# Altium footprint library smd_cap_electrolytic.PcbLib: 10 footprints
Each footprint in its own frame and in the unit in brackets; x right, y up, seen from the top. Pads: shape width x height; smd on the part's side, far side on the other; paste and mask are expansions set on the pad; w line width, h text height; cw(c..) or ccw(c..) is an arc to the next point about the centre after c.
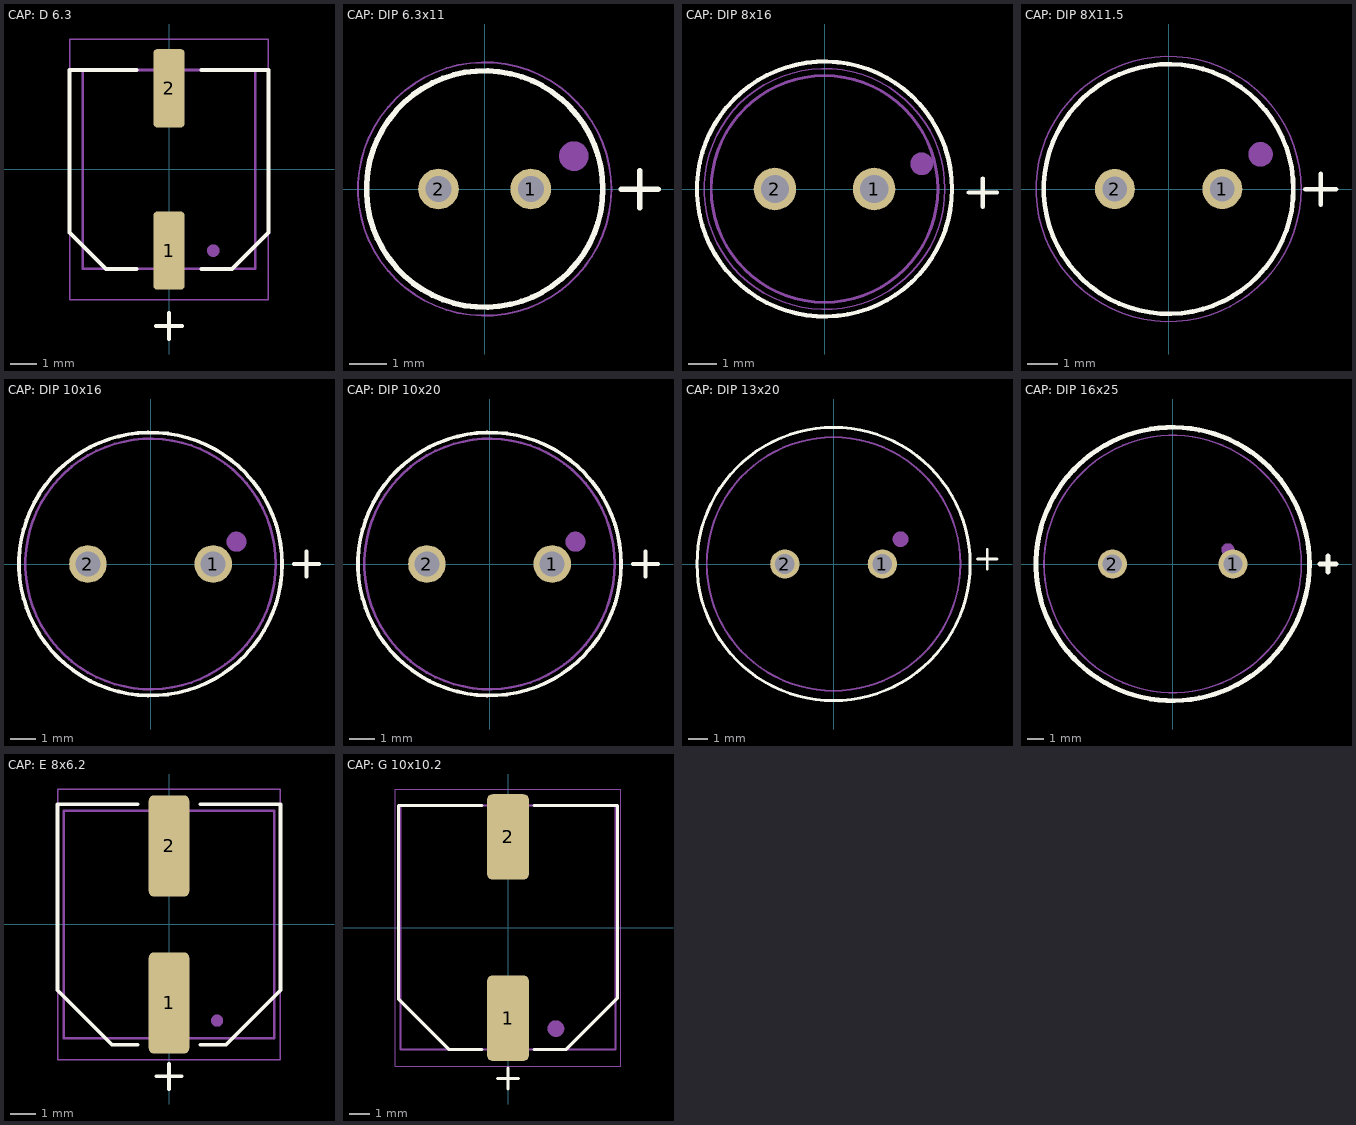
[diagram p0: the footprints below, top view; thin cyan lines are the x and y axes]

## CAP: D 6.3 [mm] "Electrolytic SMD capacitor"
pads (2):
  rrect25% 1.2x3 smd: 1(0,-3.112) 2(0,3.112)
Top Overlay:
  lines w0.15: -1.25,-3.81 -2.413,-3.81 -3.81,-2.413 -3.81,3.81 -1.25,3.81 ; -0.5,-6 0.5,-6 ; 0,-6.5 0,-5.5 ; 1.25,-3.81 2.413,-3.81 3.81,-2.413 3.81,3.81 1.25,3.81
Top Assembly:
  circle w0.254: c1.697,-3.112 r0.112
  lines w0.1: -3.302,-3.81 -3.302,3.81 3.302,3.81 3.302,-3.81 -3.302,-3.81
  text ".Designator" at -4.998,-0.333 h1
Top Courtyard (Mech15):
  lines w0.05: -3.81,-5 3.81,-5 3.81,5 -3.81,5 -3.81,-5
3D body "User Library-6_3x7_7.STEP": height 8, standoff 0, extent -3.3,-3.8 3.3,3.8

## CAP: DIP 6.3x11 [mm] "Electrolytic SMD capacitor"
pads (2):
  round 1.1 hole 0.7: 1(1.25,0) 2(-1.25,0)
Top Overlay:
  circle w0.15: c0,0 r3.2
  lines w0.15: 3.691,-0.008 4.691,-0.008 ; 4.191,-0.508 4.191,0.492
Top Assembly:
  circle w0.4: c2.413,0.889 r0.2
  circle w0.1: c0,0 r3.2
  text ".Designator" at -4.998,-0.333 h1
Top Courtyard (Mech15):
  circle w0.05: c0,0 r3.429
3D body "User Library-Cap electro 6_3x11x2_5mm.STEP": height 11.53, standoff -3.01, extent -3.175,-3.175 3.175,3.175

## CAP: DIP 8x16 [mm] "Electrolytic SMD capacitor"
pads (2):
  round 1.5 hole 1: 1(1.75,0) 2(-1.75,0)
Top Overlay:
  circle w0.15: c0,0 r4.5
  lines w0.15: 5.088,-0.127 6.088,-0.127 ; 5.588,-0.627 5.588,0.373
Top Assembly:
  circle w0.4: c3.429,0.889 r0.2
  circle w0.1: c0,0 r4
  text ".Designator" at -4.998,-0.333 h1
Top Courtyard (Mech15):
  circle w0.05: c0,0 r4.25
3D body "User Library-Cap electrolitic radial 8x16.STEP": height 16.8, standoff -0.7, extent -3.999,-4 3.999,3.998

## CAP: DIP 8Х11.5 [mm] "Electrolytic SMD capacitor"
pads (2):
  round 1.3 hole 0.8: 1(1.75,0) 2(-1.75,0)
Top Overlay:
  circle w0.15: c0,0 r4.066
  lines w0.15: 4.453,-0.008 5.453,-0.008 ; 4.953,-0.508 4.953,0.492
Top Assembly:
  circle w0.4: c2.995,1.128 r0.2
  circle w0.1: c0,0 r4.064
  text ".Designator" at -4.998,-0.333 h1
Top Courtyard (Mech15):
  circle w0.05: c0,0 r4.318
3D body "User Library-35ZLH220MEFC8X11_5.step": height 12, standoff -4.5, extent -4.001,-4 4,4

## CAP: DIP 10x16 [mm] "Electrolytic SMD capacitor"
pads (2):
  round 1.5 hole 1: 1(2.5,0) 2(-2.5,0)
Top Overlay:
  circle w0.15: c0,0 r5.25
  lines w0.15: 5.723,0 6.723,0 ; 6.223,-0.5 6.223,0.5
Top Assembly:
  circle w0.1: c0,0 r5
  circle w0.4: c3.429,0.889 r0.2
  text ".Designator" at -4.998,-0.333 h1
Top Courtyard (Mech15):
  circle w0.05: c0,0 r5.25
3D body "User Library-CAPAER_D100_L165_P050_W006X030.STEP": height 16.51, standoff -3, extent -5.01,-5 5,5

## CAP: DIP 10x20 [mm] "Electrolytic SMD capacitor"
pads (2):
  round 1.5 hole 1: 1(2.5,0) 2(-2.5,0)
Top Overlay:
  circle w0.15: c0,0 r5.25
  lines w0.15: 5.723,0 6.723,0 ; 6.223,-0.5 6.223,0.5
Top Assembly:
  circle w0.4: c3.429,0.889 r0.2
  circle w0.1: c0,0 r5
  text ".Designator" at -4.998,-0.333 h1
Top Courtyard (Mech15):
  circle w0.05: c0,0 r5.25
3D body "User Library-CE_R200_D400_H800.STEP": height 20.82, standoff -2.4, extent -5.08,-5.08 5.08,5.08

## CAP: DIP 13x20 [mm] "Electrolytic SMD capacitor"
pads (2):
  round 1.5 hole 1: 1(2.5,0) 2(-2.5,0)
Top Overlay:
  circle w0.15: c0,0 r7
  lines w0.15: 7.374,0.254 8.374,0.254 ; 7.874,-0.246 7.874,0.754
Top Assembly:
  circle w0.4: c3.429,1.27 r0.2
  circle w0.1: c0,0 r6.5
  text ".Designator" at -4.998,-0.333 h1
Top Courtyard (Mech15):
  circle w0.05: c0,0 r7
3D body "EC 13x20-black.step": height 14.6, standoff -1.5, extent -6.501,-0.299 6.5,22.401

## CAP: DIP 16x25 [mm] "Electrolytic SMD capacitor"
pads (2):
  round 1.8 hole 1.2: 1(3.75,0) 2(-3.75,0)
Top Overlay:
  circle w0.3: c0,0 r8.5
  lines w0.3: 9.152,0 10.152,0 ; 9.652,-0.5 9.652,0.5
Top Assembly:
  circle w0.1: c0,0 r8
  circle w0.4: c3.429,0.889 r0.2
  text ".Designator" at -4.998,-0.333 h1
Top Courtyard (Mech15):
  circle w0.05: c0,0 r8.5
3D body "User Library-CE_R300_D650_H1000.STEP": height 26.4, standoff -2.5, extent -8.25,-8.25 8.25,8.25

## CAP: E 8x6.2 [mm] "Electrolytic SMD capacitor"
pads (2):
  rrect25% 1.6x4 smd: 1(0,-3.1) 2(0,3.1)
Top Overlay:
  lines w0.15: -1.25,-4.75 -2.25,-4.75 -4.4,-2.6 -4.4,4.75 -1.25,4.75 ; -0.5,-6 0.5,-6 ; 0,-6.5 0,-5.5 ; 1.25,-4.75 2.25,-4.75 4.4,-2.6 4.4,4.75 1.25,4.75
Top Assembly:
  circle w0.254: c1.9,-3.8 r0.112
  lines w0.1: -4.15,-4.5 4.15,-4.5 4.15,4.5 -4.15,4.5 -4.15,-4.5
  text ".Designator" at -4.998,-0.333 h1
Top Courtyard (Mech15):
  lines w0.05: -4.4,-5.35 -4.4,5.35 4.4,5.35 4.4,-5.35 -4.4,-5.35
3D body "User Library-ELEC_CAP_E_D8_L6_2.STEP": height 6.25, standoff 0.05, extent -4.15,-4.5 4.15,4.5

## CAP: G 10x10.2 [mm] "Electrolytic SMD capacitor"
pads (2):
  rrect25% 2x4.1 smd: 1(0,-4.35) 2(0,4.35)
Top Overlay:
  lines w0.15: -1.25,-5.85 -2.85,-5.85 -5.25,-3.45 -5.25,5.852 -1.25,5.852 ; -0.5,-7.25 0.5,-7.25 ; 0,-7.75 0,-6.75 ; 1.25,-5.85 2.8,-5.85 5.25,-3.4 5.25,5.85 1.25,5.85
Top Assembly:
  circle w0.4: c2.3,-4.85 r0.2
  lines w0.1: -5.15,-5.85 5.15,-5.85 5.15,5.85 -5.15,5.85 -5.15,-5.85
  text ".Designator" at -4.998,-0.333 h1
Top Courtyard (Mech15):
  lines w0.05: -5.4,-6.65 5.4,-6.65 5.4,6.65 -5.4,6.65 -5.4,-6.65
3D body "User Library-A3D-003-00015.STEP": height 10.2, standoff 0, extent -5.15,-5.85 5.15,5.85